# Altium footprint library Regulator.PcbLib: 1 footprints
Each footprint in its own frame and in the unit in brackets; x right, y up, seen from the top. Pads: shape width x height; smd on the part's side, far side on the other; paste and mask are expansions set on the pad; w line width, h text height; cw(c..) or ccw(c..) is an arc to the next point about the centre after c.
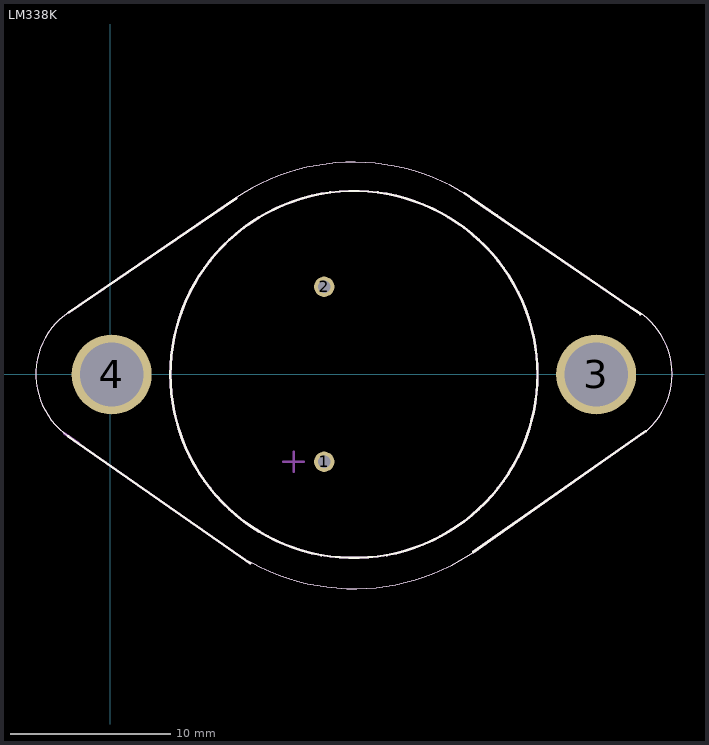
[diagram p0: the footprint, top view; thin cyan lines are the x and y axes]

## LM338K [mil]
pads (4):
  round 50 hole 30: 1(524,-214) 2(524,215)
  round 196 hole 156: 3(1191,0) 4(3,0)
Top Overlay:
  lines w0: -101.95,153.03 ccw(c0.98,0.44) -91.05,-158.97 ; 305.37,431.58 cw(c596.13,0.5) 894.38,426.44 ; 326.01,-450.01 ccw(c597.1,1.17) 899.01,-430 ; 1279.31,163.37 cw(c1192.86,0.78) 1377,0.78 ; 1306.23,-144.82 ccw(c1192.85,0.29) 1377,0.29
  lines w6: -104,-152 343,-463 ; -102,152 308,432 ; 867,445 947,390 ; 885,432 1299,148 ; 889,-436 1312,-139 ; 147,0 ccw(c597,0) 1047,0 ccw(c597,0) 147,0
Mechanical 4:
  lines w0: -101.95,153.03 ccw(c0.98,0.44) -91.05,-158.97 cw(c0.98,0.44) -101.95,153.03 ; 305.37,431.58 cw(c596.13,0.5) 894.38,426.44 ccw(c596.13,0.5) 305.37,431.58 ; 326.01,-450.01 ccw(c597.1,1.17) 899.01,-430 cw(c597.1,1.17) 326.01,-450.01 ; 1279.51,163.27 cw(c1192.99,0.56) 1306.44,-144.65 ccw(c1192.99,0.56) 1279.51,163.27
  lines w6: 147,0 ccw(c597,0) 1047,0 ; 147,0 cw(c597,0) 1047,0 ; 147,0 ccw(c597,0) 1047,0 ; 147,0 cw(c597,0) 1047,0 ; -114,-144 -78,-168 -114,-144 ; -104,-152 343,-463 -104,-152 ; -102,152 308,432 -102,152 ; 424,-214 474,-214 424,-214 ; 449,-239 449,-189 449,-239 ; 867,445 947,390 867,445 ; 885,432 1299,148 885,432 ; 889,-436 1312,-139 889,-436
3D body "2N3055--3DModel-STEP-56544(1).STEP": height 351.18, standoff -515.75, extent -175.74,-501.97 1355.75,501.97